# Altium footprint library TO-252.PcbLib: 1 footprints
Each footprint in its own frame and in the unit in brackets; x right, y up, seen from the top. Pads: shape width x height; smd on the part's side, far side on the other; paste and mask are expansions set on the pad; w line width, h text height; cw(c..) or ccw(c..) is an arc to the next point about the centre after c.
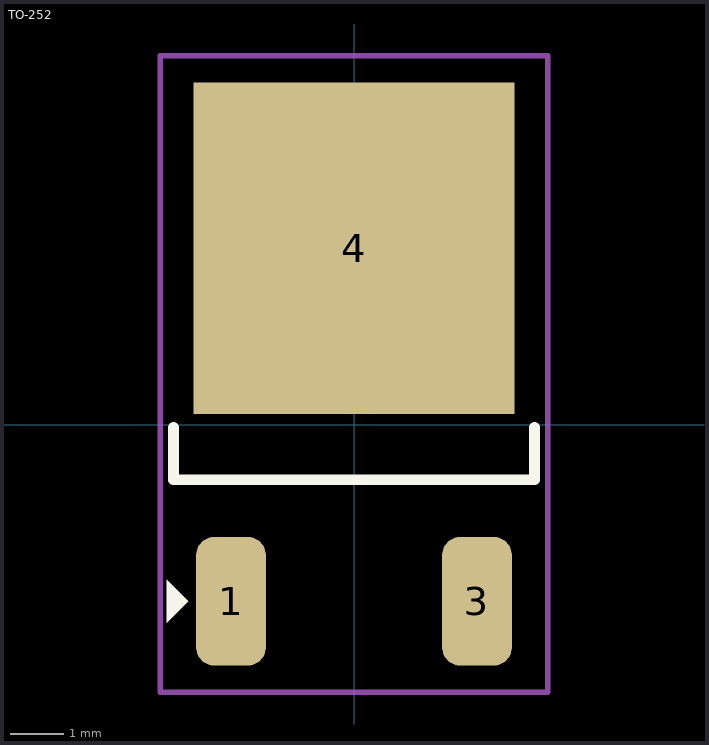
[diagram p0: the footprint, top view; thin cyan lines are the x and y axes]

## TO-252 [mm]
pads (3):
  rrect50% 1.3x2.4 smd: 1(-2.3,-3.3) 3(2.3,-3.3)
  rect 6x6.2 smd: 4(0,3.3)
Top Overlay:
  region: -3.5,-3.7 -3.5,-2.9 -3.1,-3.3
  lines w0.2: -3.375,-0.05 -3.375,-1.025 3.375,-1.025 3.375,-0.05
Top Courtyard:
  lines w0.1: -3.625,-5 3.625,-5 3.625,6.9 -3.625,6.9 -3.625,-5
3D body "User Library-DPAK_TO-252AA.step": height 2.37, standoff -0.03, extent -3.367,-3.998 3.367,6.102